# Altium footprint library Adams Altium Library.PcbLib: 250 footprints (part 4 of 16)
Each footprint in its own frame and in the unit in brackets; x right, y up, seen from the top. Pads: shape width x height; smd on the part's side, far side on the other; paste and mask are expansions set on the pad; w line width, h text height; cw(c..) or ccw(c..) is an arc to the next point about the centre after c.
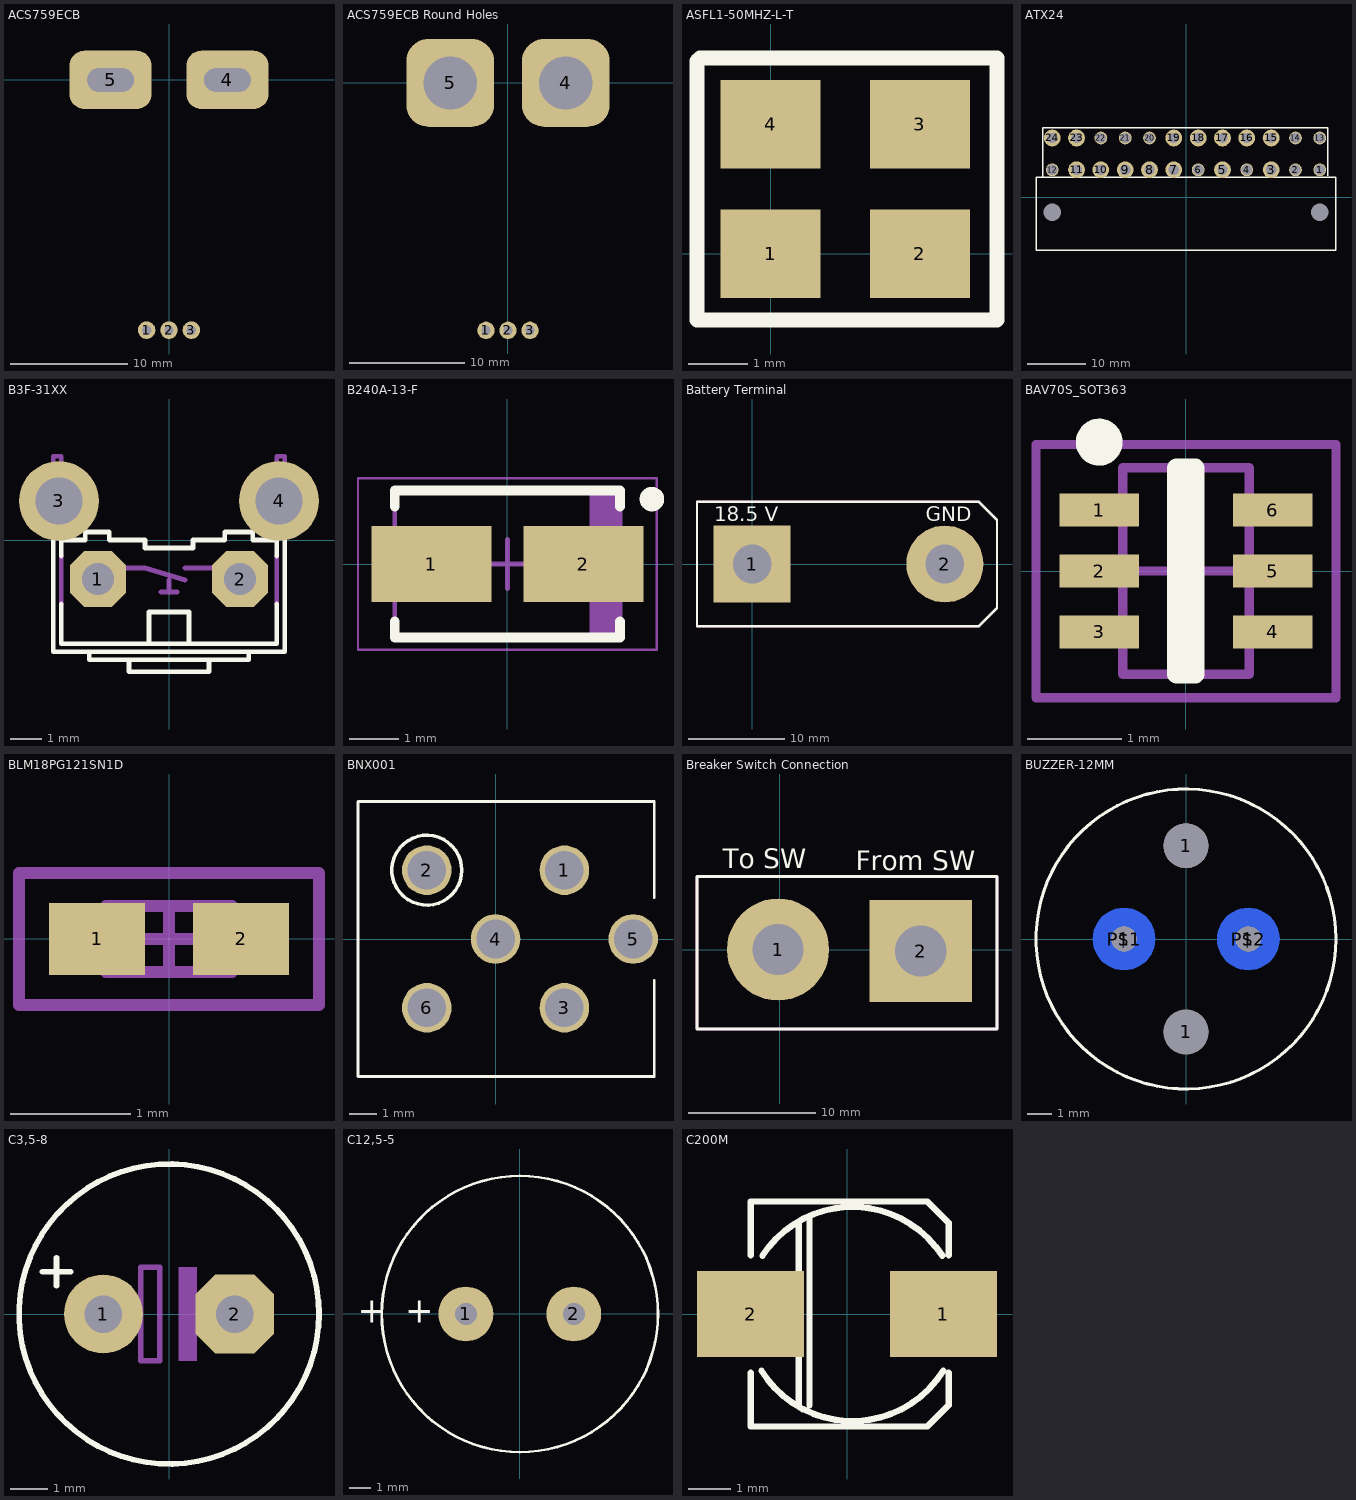
[diagram p3: the footprints below, top view; thin cyan lines are the x and y axes]

## ACS759ECB [mm] "Current Sensor"
height 7
pads (5):
  round 1.5 hole 0.8: 1(-1.91,-21.4) 2(0,-21.4) 3(1.91,-21.4)
  rrect50% 7x5 hole 2 slot 4 at 0 deg: 4(5,0) 5(-5,0)

## ACS759ECB Round Holes [mm] "Current Sensor"
height 7
pads (5):
  round 1.5 hole 0.8: 1(-1.91,-21.4) 2(0,-21.4) 3(1.91,-21.4)
  rrect50% 7.6x7.6 hole 4.6: 4(5,0) 5(-5,0)

## Arduino Leonardo I2C High Byte [mm] "Arduino Lenardo header with I2C and AREF"

## ASFL1-50MHZ-L-T [mm] "Abracon ASFL1-50MHZ-L-T 50MHZ Crystal Oscillator"
pads (4):
  rect 1.7x1.5 smd: 1(0,0) 2(2.54,0) 3(2.54,2.2) 4(0,2.2)
Top Overlay:
  lines w0.254: -1.25,-1.125 3.85,-1.125 3.85,3.325 -1.2,3.325 -1.25,3.275 -1.25,-1.125

## ATX24 [mm]
pads (26):
  round 0 hole 3 unplated paste-99 mask-0.102: 0(-23.1,-2.54) 1(23.1,-2.54)
  round 2.21 hole 1.8 paste-99: 1(23.1,4.76) 2(18.9,4.76) 4(10.5,4.76) 6(2.1,4.76) 12(-23.1,4.76) 13(23.1,10.26) 14(18.9,10.26) 20(-6.3,10.26) 21(-10.5,10.26) 22(-14.7,10.26)
  round 2.9 hole 1.8 paste-99: 3(14.7,4.76) 5(6.3,4.76) 7(-2.1,4.76) 8(-6.3,4.76) 9(-10.5,4.76) 10(-14.7,4.76) 11(-18.9,4.76) 15(14.7,10.26) 16(10.5,10.26) 17(6.3,10.26) 18(2.1,10.26) 19(-2.1,10.26) 23(-18.9,10.26) 24(-23.1,10.26)
Top Overlay:
  lines w0.254: -24.7,3.6 -24.7,12 24.5,12 24.5,3.7 ; -25.9,-9.1 -25.9,3.5 25.9,3.5 25.9,-9.1 -25.9,-9.1
3D body: height 10, standoff 0, extent -24.652,-4.04 24.6,11.812
3D body: height 20, standoff 0, extent -25.899,-9.099 25.899,3.499

## B3F-31XX [mil]
pads (4):
  oct 70x70 hole 40: 1(-89,-49) 2(89,-49)
  round 100 hole 59: 3(-138,49) 4(138,49)
Top Overlay:
  lines w6: -145,0 -145,-140 100,-140 ; -135,-80 -135,-130 -25,-130 ; -135,-20 -135,0 -105,0 -105,10 -75,10 -75,0 -30,0 -30,-10 30,-10 30,0 70,0 70,10 105,10 105,0 135,0 135,-20 ; -100,-140 -100,-150 -50,-150 ; 135,-80 135,-130 25,-130 ; 145,0 145,-140 100,-140 ; -50,-150 -50,-165 50,-165 50,-150 ; -50,-150 50,-150 ; -25,-130 -25,-90 25,-90 25,-130 ; -25,-130 25,-130 ; 50,-150 100,-150 100,-140
Mechanical 16:
  lines w6: -145,0 -145,105 -135,105 -135,0 ; -135,-80 -135,-20 ; -65,-35 -30,-35 20,-50 ; -10,-65 0,-65 ; 0,-50 0,-65 ; 10,-65 0,-65 ; 20,-35 65,-35 ; 135,-80 135,-20 ; 135,0 135,105 145,105 145,0
3D body: height 303.15, standoff -137.8, extent -165.35,-200 165.35,109.06

## B240A-13-F [mm] "Molded Diode, 2-Leads, Body 4.30x2.60mm, IPC Medium Density"
height 2.3
pads (2):
  rect 2.45x1.55 smd: 1(-1.55,0) 2(1.55,0)
Top Overlay:
  circle w0.25: c2.95,1.325 r0.125
  lines w0.2: -2.3,-1.175 -2.3,-1.5 2.3,-1.5 2.3,-1.175 ; -2.3,1.175 -2.3,1.5 2.3,1.5 2.3,1.175
Mechanical 13:
  rectangle: 1.681,-1.46 2.3,1.46
  lines w0.1: -2.3,-1.46 2.3,-1.46 2.3,1.46 -2.3,1.46 -2.3,-1.46
Mechanical 15:
  lines w0.05: -3.05,-1.75 3.05,-1.75 3.05,1.75 -3.05,1.75 -3.05,-1.75
  lines w0.1: -0.5,0 0.5,0 ; 0,-0.5 0,0.5
3D body: height 2.3, standoff 0, extent -2.3,-1.46 2.3,1.46

## Battery Terminal [mm] "Custom batery Terminal"
pads (2):
  rect 8x8 hole 4: 1(0,0)
  round 8 hole 4: 2(20,0)
Top Overlay:
  lines w0.254: -5.715,-6.477 23.495,-6.477 25.4,-4.572 25.4,4.572 23.495,6.477 -5.715,6.477 -5.715,-6.477
  text "GND" at 18.034,4.445 h1.52
  text "18.5 V" at -3.937,4.445 h1.52
Mechanical 1:
  lines w0.254: -5.715,-6.477 23.495,-6.477 25.4,-4.572 25.4,4.572 23.495,6.477 -5.715,6.477 -5.715,-6.477
Mechanical 13:
  lines w0.254: -5.715,-6.477 23.495,-6.477 25.4,-4.572 25.4,4.572 23.495,6.477 -5.715,6.477 -5.715,-6.477

## BAV70S_SOT363 [mm] "SOT23, 6-Leads, Body 2.2x2.2mm (max), Pitch 0.65mm, IPC Medium Density"
height 1.1
pads (6):
  rect 0.85x0.35 smd: 1(-0.925,0.65) 2(-0.925,0) 3(-0.925,-0.65) 4(0.925,-0.65) 5(0.925,0) 6(0.925,0.65)
Top Overlay:
  circle w0.25: c-0.925,1.375 r0.125
  lines w0.2: -0.1,-1.1 0.1,-1.1 0.1,1.1 -0.1,1.1 -0.1,-1.1
Mechanical 13:
  lines w0.1: -0.675,-1.1 -0.675,1.1 0.675,1.1 0.675,-1.1 -0.675,-1.1
Mechanical 15:
  lines w0.1: -0.5,0 0.5,0 ; 0,-0.5 0,0.5 ; -1.6,-1.35 -1.6,1.35 1.6,1.35 1.6,-1.35 -1.6,-1.35
3D body: height 1.1, standoff 0.8, extent -0.675,-1.1 0.675,1.1

## BLM18PG121SN1D [mm] "Chip Inductor, 2-Leads, Body 1.0x0.5mm, IPC Medium Density"
height 0.6
pads (2):
  rect 0.8x0.6 smd: 1(-0.6,0) 2(0.6,0)
Mechanical 13:
  lines w0.1: -0.525,-0.275 0.525,-0.275 0.525,0.275 -0.525,0.275 -0.525,-0.275
Mechanical 15:
  lines w0.1: -0.275,0 0.275,0 ; 0,-0.275 0,0.275 ; -1.25,-0.55 1.25,-0.55 1.25,0.55 -1.25,0.55 -1.25,-0.55
3D body: height 0.6, standoff 0, extent -0.525,-0.275 0.525,0.275

## BNX001 [mm]
pads (6):
  round 1.8 hole 1.4: 1(2.5,2.5) 2(-2.5,2.5) 3(2.5,-2.5) 4(0,0) 5(5,0) 6(-2.5,-2.5)
Top Overlay:
  circle w0.127: c-2.5,2.5 r1.27
  lines w0.1: 5.762,-1.5 5.762,-5 -5,-5 -5,2.5 -5,5 5.762,5 5.762,1.5

## Breaker Switch Connection [mm]
pads (2):
  round 8 hole 4: 1(-0.127,0)
  rect 8x8 hole 4: 2(11.049,-0.127)
Top Overlay:
  lines w0.254: -6.477,-6.223 17.018,-6.223 17.018,5.715 -6.477,5.715 -6.477,-6.096 -6.477,-6.223
  text "To SW" at -4.445,6.35 h1.52
  text "From SW" at 5.969,6.223 h1.52
Mechanical 13:
  lines w0.254: -6.477,-6.223 17.018,-6.223 17.018,5.715 -6.477,5.715 -6.477,-6.223

## BUZZER-12MM [mil]
pads (6):
  round 40 hole 40: 1(-98.43,0) 1(99,0)
  round 71 hole 71: 1(0,-147.64) 1(0,148)
  rrect100% 99x99 smd far side: P$1(-98.43,0) P$2(99,0)
Top Overlay:
  circle w5: c0,0 r238.19
3D body: height 354.33, standoff 0, extent -238.54,-238.54 238.54,238.54

## C3,5-8 [mil]
pads (2):
  round 84 hole 40: 1(-70,0)
  oct 84x84 hole 40: 2(70,0)
Top Overlay:
  circle w6: c0,0 r160
  lines w6: -135,45 -105,45 ; -120,30 -120,60
Mechanical 16:
  rectangle: 10,-50 30,50
  lines w6: -65,0 -30,0 ; 25,0 65,0 ; -30,0 -30,-50 -10,-50 -10,50 -30,50 -30,0
3D body: height 511.81, standoff 0, extent -160.47,-160.47 160.47,160.47

## C12,5-5 [mm]
pads (2):
  round 2.54 hole 1.016: 1(-2.5,0) 2(2.5,0)
Top Overlay:
  circle w0.127: c0,0 r6.401
  text "+" at -5.3,-0.8 h1.97
  text "+" at -7.5,-0.8 h1.97
3D body: height 20, standoff 0, extent -6.41,-6.41 6.41,6.41

## C200M [mil]
pads (2):
  rect 100x80 smd paste-23.62 mask-23.62: 1(90,0)
  rect 100x80 smd paste-19.68 mask-19.68: 2(-90,0)
Top Overlay:
  lines w6: -90,-55 -90,-105 75,-105 95,-85 95,-65 95,-55 ; -90,55 -90,105 75,105 95,85 95,55 ; -79.8,-52.99 ccw(c5,0) 89.8,-52.99 ; -78.87,54.46 cw(c5,0) 88.87,54.46 ; -45,-85 -45,85 ; -35,-85 -35,90